# Altium footprint library Ferrites.PcbLib: 33 footprints (part 2 of 3)
Each footprint in its own frame and in the unit in brackets; x right, y up, seen from the top. Pads: shape width x height; smd on the part's side, far side on the other; paste and mask are expansions set on the pad; w line width, h text height; cw(c..) or ccw(c..) is an arc to the next point about the centre after c.
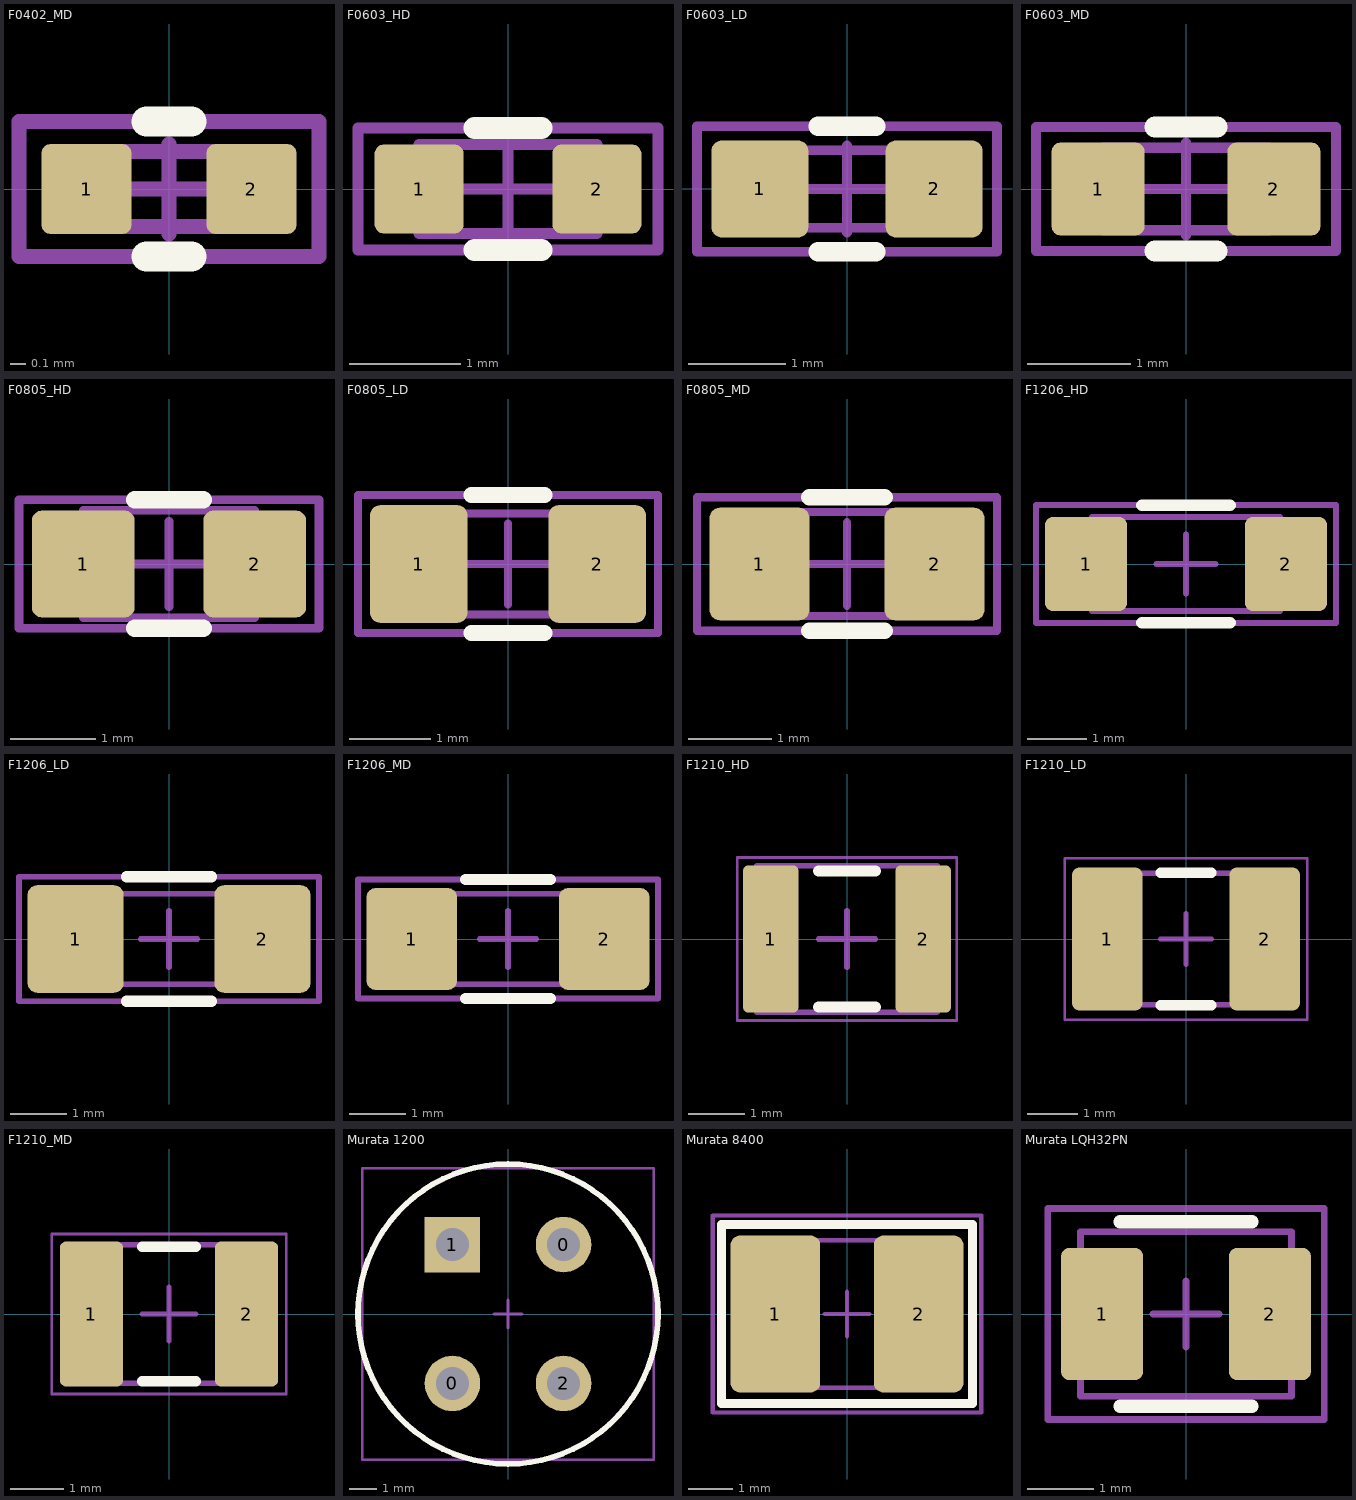
[diagram p1: the footprints below, top view; thin cyan lines are the x and y axes]

## F0402_MD [mm] "Chip Ferrite bead, 2-Leads, Body 1.0x0.5mm, IPC Medium Density"
height 0.5
pads (2):
  rrect20% 0.6x0.6 smd: 1(-0.55,0) 2(0.55,0)
Top Overlay:
  lines w0.2: -0.15,-0.45 0.15,-0.45 ; -0.15,0.45 0.15,0.45
Mechanical 1:
  lines w0.1: -0.5,-0.25 -0.5,0.25 0.5,0.25 0.5,-0.25 -0.5,-0.25
Mechanical 15:
  lines w0.1: -0.3,0 0.3,0 ; 0,-0.3 0,0.3 ; -1,-0.45 -1,0.45 1,0.45 1,-0.45 -1,-0.45
3D body "L_0402_1005Metric.step": height 0.5, standoff 0, extent -0.5,-0.25 0.5,0.25

## F0603_HD [mm] "Chip Ferrite bead, 2-Leads, Body 1.6x0.8mm, IPC High Density"
pads (2):
  rrect20% 0.8x0.8 smd: 1(-0.8,0) 2(0.8,0)
Top Overlay:
  lines w0.2: -0.3,-0.55 0.3,-0.55 ; -0.3,0.55 0.3,0.55
Mechanical 1:
  lines w0.1: -0.8,-0.4 -0.8,0.4 0.8,0.4 0.8,-0.4 -0.8,-0.4
Mechanical 15:
  lines w0.1: -0.45,0 0.45,0 ; 0,-0.45 0,0.45 ; -1.35,-0.55 -1.35,0.55 1.35,0.55 1.35,-0.55 -1.35,-0.55
3D body "L_0603_1608Metric.step": height 0.8, standoff 0, extent -0.8,-0.4 0.8,0.4

## F0603_LD [mm] "Chip Ferrite bead, 2-Leads, Body 1.6x0.8mm, IPC Low Density"
pads (2):
  rrect20% 1x1 smd: 1(-0.9,0) 2(0.9,0)
Top Overlay:
  lines w0.2: -0.3,-0.65 0.3,-0.65 ; -0.3,0.65 0.3,0.65
Mechanical 1:
  lines w0.1: -0.8,-0.4 0.8,-0.4 0.8,0.4 -0.8,0.4 -0.8,-0.4
Mechanical 15:
  lines w0.1: -0.45,0 0.45,0 ; 0,-0.45 0,0.45 ; -1.55,-0.65 1.55,-0.65 1.55,0.65 -1.55,0.65 -1.55,-0.65
3D body "L_0603_1608Metric.step": height 0.8, standoff 0, extent -0.8,-0.4 0.8,0.4

## F0603_MD [mm] "Chip Ferrite bead, 2-Leads, Body 1.6x0.8mm, IPC Medium Density Density"
pads (2):
  rrect20% 0.9x0.9 smd: 1(-0.85,0) 2(0.85,0)
Top Overlay:
  lines w0.2: -0.3,-0.6 0.3,-0.6 ; -0.3,0.6 0.3,0.6
Mechanical 1:
  lines w0.1: -0.8,-0.4 -0.8,0.4 0.8,0.4 0.8,-0.4 -0.8,-0.4
Mechanical 15:
  lines w0.1: -0.45,0 0.45,0 ; 0,-0.45 0,0.45 ; -1.45,-0.6 -1.45,0.6 1.45,0.6 1.45,-0.6 -1.45,-0.6
3D body "L_0603_1608Metric.step": height 0.8, standoff 0, extent -0.8,-0.4 0.8,0.4

## F0805_HD [mm] "Chip Ferrite bead, 2-Leads, Body 2.0x1.25mm, IPC High Density"
height 0.6
pads (2):
  rrect20% 1.2x1.25 smd: 1(-1,0) 2(1,0)
Top Overlay:
  lines w0.2: -0.4,-0.75 0.4,-0.75 ; -0.4,0.75 0.4,0.75
Mechanical 1:
  lines w0.1: -1,-0.625 -1,0.625 1,0.625 1,-0.625 -1,-0.625
Mechanical 15:
  lines w0.1: -0.5,0 0.5,0 ; 0,-0.5 0,0.5 ; -1.75,-0.75 1.75,-0.75 1.75,0.75 -1.75,0.75 -1.75,-0.75
3D body "L_0805_2012Metric.step": height 1.25, standoff 0, extent -1,-0.625 1,0.625

## F0805_LD [mm] "Chip Ferrite bead, 2-Leads, Body 2.0x1.25mm, IPC Low Density"
height 0.6
pads (2):
  rrect20% 1.2x1.45 smd: 1(-1.1,0) 2(1.1,0)
Top Overlay:
  lines w0.2: -0.45,-0.85 0.45,-0.85 ; -0.45,0.85 0.45,0.85
Mechanical 1:
  lines w0.1: -1,-0.625 1,-0.625 1,0.625 -1,0.625 -1,-0.625
Mechanical 15:
  lines w0.1: -0.5,0 0.5,0 ; 0,-0.5 0,0.5 ; -1.85,-0.85 -1.85,0.85 1.85,0.85 1.85,-0.85 -1.85,-0.85
3D body "L_0805_2012Metric.step": height 1.25, standoff 0, extent -1,-0.625 1,0.625

## F0805_MD [mm] "Chip Ferrite bead, 2-Leads, Body 2.0x1.25mm, IPC Medium Density"
height 0.6
pads (2):
  rrect20% 1.2x1.35 smd: 1(-1.05,0) 2(1.05,0)
Top Overlay:
  lines w0.2: -0.45,-0.8 0.45,-0.8 ; -0.45,0.8 0.45,0.8
Mechanical 1:
  lines w0.1: -1,-0.625 1,-0.625 1,0.625 -1,0.625 -1,-0.625
Mechanical 15:
  lines w0.1: -0.5,0 0.5,0 ; 0,-0.5 0,0.5 ; -1.8,-0.8 1.8,-0.8 1.8,0.8 -1.8,0.8 -1.8,-0.8
3D body "L_0805_2012Metric.step": height 1.25, standoff 0, extent -1,-0.625 1,0.625

## F1206_HD [mm] "Chip Ferrite bead, 2-Leads, Body 3.2x1.6mm, IPC High Density"
pads (2):
  rrect20% 1.4x1.6 smd: 1(-1.7,0) 2(1.7,0)
Top Overlay:
  lines w0.2: -0.75,-1 0.75,-1 ; -0.75,1 0.75,1
Mechanical 1:
  lines w0.1: -1.6,-0.8 1.6,-0.8 1.6,0.8 -1.6,0.8 -1.6,-0.8
Mechanical 15:
  lines w0.1: -0.5,0 0.5,0 ; 0,-0.5 0,0.5 ; -2.55,-1 2.55,-1 2.55,1 -2.55,1 -2.55,-1
3D body "L_1206_3216Metric.step": height 1.6, standoff 0, extent -1.6,-0.8 1.6,0.8

## F1206_LD [mm] "Chip Ferrite bead, 2-Leads, Body 3.2x1.6mm, IPC Low Density"
pads (2):
  rrect20% 1.7x1.9 smd: 1(-1.65,0) 2(1.65,0)
Top Overlay:
  lines w0.2: -0.75,-1.1 0.75,-1.1 ; -0.75,1.1 0.75,1.1
Mechanical 1:
  lines w0.1: -1.6,-0.8 1.6,-0.8 1.6,0.8 -1.6,0.8 -1.6,-0.8
Mechanical 15:
  lines w0.1: -0.5,0 0.5,0 ; 0,-0.5 0,0.5 ; -2.65,-1.1 -2.65,1.1 2.65,1.1 2.65,-1.1 -2.65,-1.1
3D body "L_1206_3216Metric.step": height 1.6, standoff 0, extent -1.6,-0.8 1.6,0.8

## F1206_MD [mm] "Chip Ferrite bead, 2-Leads, Body 3.2x1.6mm, IPC Medium Density"
pads (2):
  rrect20% 1.6x1.8 smd: 1(-1.7,0) 2(1.7,0)
Top Overlay:
  lines w0.2: -0.75,-1.05 0.75,-1.05 ; -0.75,1.05 0.75,1.05
Mechanical 1:
  lines w0.1: -1.6,-0.8 -1.6,0.8 1.6,0.8 1.6,-0.8 -1.6,-0.8
Mechanical 15:
  lines w0.1: -0.5,0 0.5,0 ; 0,-0.5 0,0.5 ; -2.65,-1.05 -2.65,1.05 2.65,1.05 2.65,-1.05 -2.65,-1.05
3D body "L_1206_3216Metric.step": height 1.6, standoff 0, extent -1.6,-0.8 1.6,0.8

## F1210_HD [mm] "Chip Inductor, 2-Leads, Body 3.20x2.50mm, IPC High Density"
height 1.5
pads (2):
  rrect20% 0.99x2.62 smd: 1(-1.355,0) 2(1.355,0)
Top Overlay:
  lines w0.2: -0.5,-1.21 0.5,-1.21 ; -0.5,1.21 0.5,1.21
Mechanical 1:
  lines w0.1: -1.6,-1.3 -1.6,1.3 1.6,1.3 1.6,-1.3 -1.6,-1.3
Mechanical 15:
  lines w0.05: -1.95,-1.45 -1.95,1.45 1.95,1.45 1.95,-1.45 -1.95,-1.45
  lines w0.1: -0.5,0 0.5,0 ; 0,-0.5 0,0.5
3D body "L_1210_3225Metric.step": height 2.5, standoff 0, extent -1.6,-1.25 1.6,1.25

## F1210_LD [mm] "Chip Inductor, 2-Leads, Body 3.20x2.50mm, IPC Low Density"
height 1.5
pads (2):
  rrect20% 1.39x2.82 smd: 1(-1.555,0) 2(1.555,0)
Top Overlay:
  lines w0.2: -0.5,-1.31 0.5,-1.31 ; -0.5,1.31 0.5,1.31
Mechanical 1:
  lines w0.1: -1.6,-1.3 1.6,-1.3 1.6,1.3 -1.6,1.3 -1.6,-1.3
Mechanical 15:
  lines w0.05: -2.4,-1.6 2.4,-1.6 2.4,1.6 -2.4,1.6 -2.4,-1.6
  lines w0.1: -0.5,0 0.5,0 ; 0,-0.5 0,0.5
3D body "L_1210_3225Metric.step": height 2.5, standoff 0, extent -1.6,-1.25 1.6,1.25

## F1210_MD [mm] "Chip Inductor, 2-Leads, Body 3.20x2.50mm, IPC Medium Density"
height 1.5
pads (2):
  rrect20% 1.19x2.72 smd: 1(-1.455,0) 2(1.455,0)
Top Overlay:
  lines w0.2: -0.5,-1.26 0.5,-1.26 ; -0.5,1.26 0.5,1.26
Mechanical 1:
  lines w0.1: -1.6,-1.3 1.6,-1.3 1.6,1.3 -1.6,1.3 -1.6,-1.3
Mechanical 15:
  lines w0.05: -2.2,-1.5 -2.2,1.5 2.2,1.5 2.2,-1.5 -2.2,-1.5
  lines w0.1: -0.5,0 0.5,0 ; 0,-0.5 0,0.5
3D body "L_1210_3225Metric.step": height 2.5, standoff 0, extent -1.6,-1.25 1.6,1.25

## Murata 1200 [mm]
pads (4):
  round 2 hole 1.2 unplated: 0(-2,-2.5) 0(2,2.5) 2(2,-2.5)
  rect 2x2 hole 1.2 unplated: 1(-2,2.5)
Top Overlay:
  circle w0.2: c0,0 r5.4
Mechanical 1:
  lines w0.1: -5.25,-5.25 -5.25,5.25 5.25,5.25 5.25,-5.25 -5.25,-5.25
Mechanical 15:
  lines w0.1: -0.5,0 0.5,0 ; 0,-0.5 0,0.5
3D body "User Library-1200RS.step": height 10.5, standoff -2.5, extent -5.25,-5.25 5.25,5.25

## Murata 8400 [mm] "Murata 8400 Series"
height 3
pads (2):
  rrect20% 2x3.5 smd: 1(-1.6,0) 2(1.6,0)
Top Overlay:
  lines w0.2: -2.8,-2 -2.8,2 2.8,2 2.8,-2 -2.8,-2
Mechanical 1:
  lines w0.1: -2.25,-1.65 2.25,-1.65 2.25,1.65 -2.25,1.65 -2.25,-1.65
Mechanical 15:
  lines w0.1: -0.5,0 0.5,0 ; 0,-0.5 0,0.5 ; -3,-2.2 -3,2.2 3,2.2 3,-2.2 -3,-2.2
3D body "L_Murata_8400.STEP": height 2.6, standoff 0, extent -2.25,-1.65 2.25,1.65

## Murata LQH32PN [mil]
pads (2):
  rrect20% 49x79 smd: 1(-50.09,0) 2(50.09,0)
Top Overlay:
  lines w7.87: -39.37,-55.12 39.37,-55.12 ; -39.37,55.12 39.37,55.12
Mechanical 1:
  lines w3.94: -62.99,-49.21 62.99,-49.21 62.99,49.21 -62.99,49.21 -62.99,-49.21
Mechanical 15:
  lines w3.94: -19.68,0 19.68,0 ; 0,-19.68 0,19.68 ; -82.68,-62.99 -82.68,62.99 82.68,62.99 82.68,-62.99 -82.68,-62.99
3D body "User Library-LQH32PN_sw.step": height 61.02, standoff 0, extent -62.99,-49.21 62.99,49.21